# EAGLE library part 750811693 (library Wurth Electronics Midcom Inc - EAGLE Lib V2-1)
Package Style: ER28/14 Mounting: THT Pins: 10 pins Bobbin: 070-5576 Best pinouts for production vary per application. Please contact Wurth Electronics Midcom, Inc. for assistance with your custom design. Website: Wurth Electronics Midcom <http://www.we-online.com/midcom> Contact us Wurth Electronics Midcom, Inc. 121 Airport Dr. Watertown, SD 57201 Phone: (605) 886-4385 Fax: (605) 886-4486 E-Mail: midcom@we-online.com
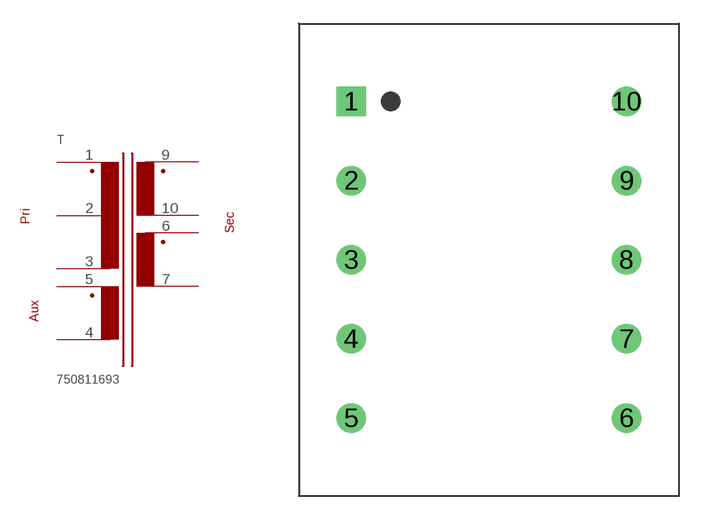
[diagram p33: symbol with the pads of ER28/14_THT_V_10PIN_(5576); footprint ER28/14_THT_V_10PIN_(5576)]

Designator prefix T

## 750811693  [ER28/14_THT_V_10PIN_(5576)]
1  1  pas
2  2  pas
3  3  pas
4  4  pas
5  5  pas
6  6  pas
7  7  pas
9  9  pas
10  10  pas

## Footprint ER28/14_THT_V_10PIN_(5576) (pad centres in mm)
Package Style: ER28/14 Mounting: THT Pins: 10 Bobbin: 070-5576
drill 1.245 square: 1 -8.7,10.008
drill 1.245: 2 -8.7,5.004; 3 -8.7,0; 4 -8.7,-5.004; 5 -8.7,-10.008; 6 8.7,-10.008; 7 8.7,-5.004; 8 8.7,0; 9 8.7,5.004; 10 8.7,10.008